# Altium schematic symbol library SCH - MCU - NUVOTON - NUVOTON M484SIDAE2U.SchLib: 1 symbol
Pins are listed as number, name and electrical type; pins without a type are passive.

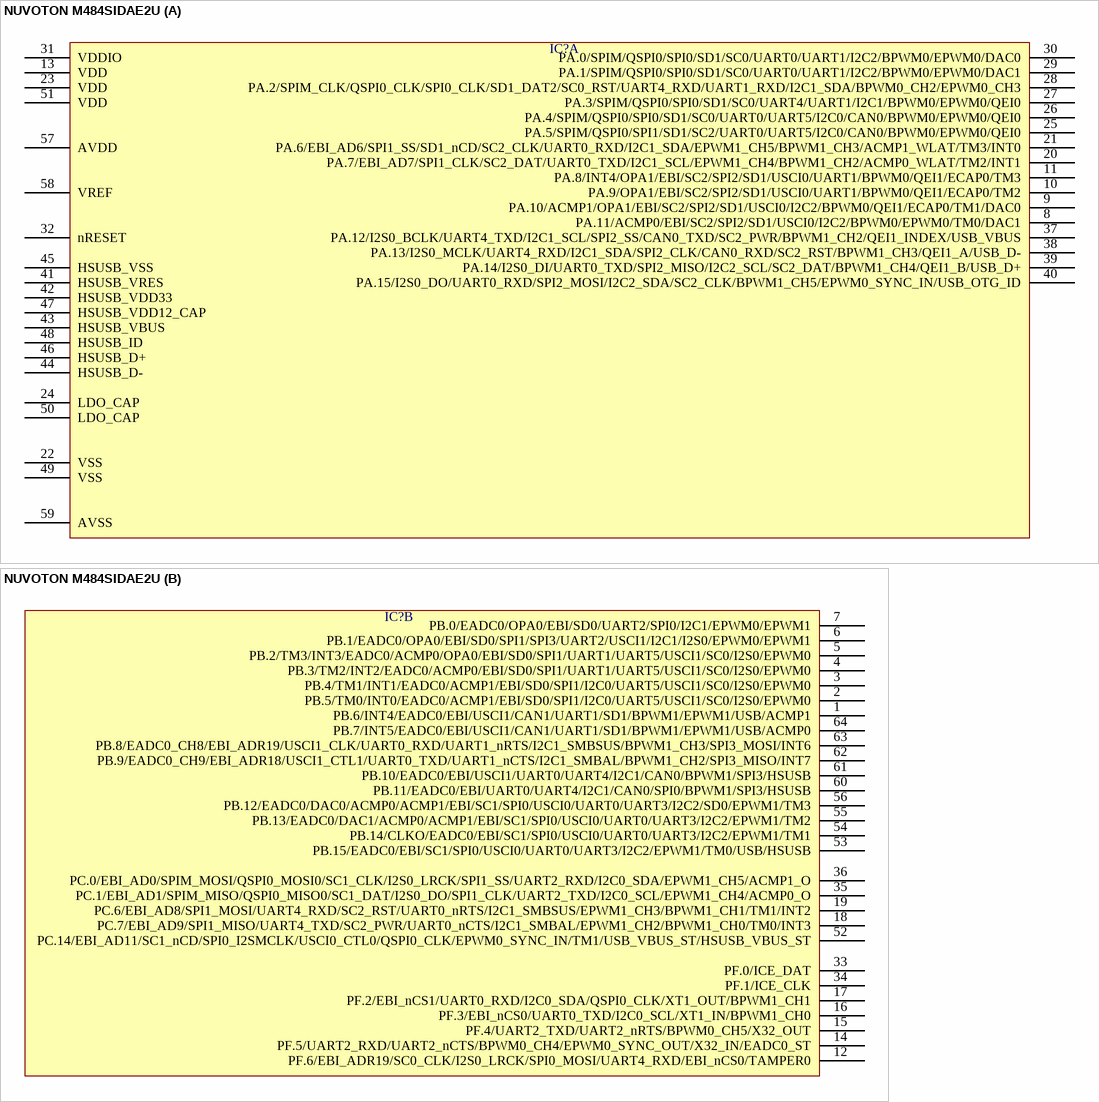
[diagram p0: symbol NUVOTON M484SIDAE2U]

## NUVOTON M484SIDAE2U
designator IC?  (value not drawn)
part A pins: 8 PA.11/ACMP0/EBI/SC2/SPI2/SD1/USCI0/I2C2/BPWM0/EPWM0/TM0/DAC1, 9 PA.10/ACMP1/OPA1/EBI/SC2/SPI2/SD1/USCI0/I2C2/BPWM0/QEI1/ECAP0/TM1/DAC0, 10 PA.9/OPA1/EBI/SC2/SPI2/SD1/USCI0/UART1/BPWM0/QEI1/ECAP0/TM2, 11 PA.8/INT4/OPA1/EBI/SC2/SPI2/SD1/USCI0/UART1/BPWM0/QEI1/ECAP0/TM3, 13 VDD, 20 PA.7/EBI_AD7/SPI1_CLK/SC2_DAT/UART0_TXD/I2C1_SCL/EPWM1_CH4/BPWM1_CH2/ACMP0_WLAT/TM2/INT1, 21 PA.6/EBI_AD6/SPI1_SS/SD1_nCD/SC2_CLK/UART0_RXD/I2C1_SDA/EPWM1_CH5/BPWM1_CH3/ACMP1_WLAT/TM3/INT0, 22 VSS, 23 VDD, 24 LDO_CAP, 25 PA.5/SPIM/QSPI0/SPI1/SD1/SC2/UART0/UART5/I2C0/CAN0/BPWM0/EPWM0/QEI0, 26 PA.4/SPIM/QSPI0/SPI0/SD1/SC0/UART0/UART5/I2C0/CAN0/BPWM0/EPWM0/QEI0, 27 PA.3/SPIM/QSPI0/SPI0/SD1/SC0/UART4/UART1/I2C1/BPWM0/EPWM0/QEI0, 28 PA.2/SPIM_CLK/QSPI0_CLK/SPI0_CLK/SD1_DAT2/SC0_RST/UART4_RXD/UART1_RXD/I2C1_SDA/BPWM0_CH2/EPWM0_CH3, 29 PA.1/SPIM/QSPI0/SPI0/SD1/SC0/UART0/UART1/I2C2/BPWM0/EPWM0/DAC1, 30 PA.0/SPIM/QSPI0/SPI0/SD1/SC0/UART0/UART1/I2C2/BPWM0/EPWM0/DAC0, 31 VDDIO, 32 nRESET, 37 PA.12/I2S0_BCLK/UART4_TXD/I2C1_SCL/SPI2_SS/CAN0_TXD/SC2_PWR/BPWM1_CH2/QEI1_INDEX/USB_VBUS, 38 PA.13/I2S0_MCLK/UART4_RXD/I2C1_SDA/SPI2_CLK/CAN0_RXD/SC2_RST/BPWM1_CH3/QEI1_A/USB_D-, 39 PA.14/I2S0_DI/UART0_TXD/SPI2_MISO/I2C2_SCL/SC2_DAT/BPWM1_CH4/QEI1_B/USB_D+, 40 PA.15/I2S0_DO/UART0_RXD/SPI2_MOSI/I2C2_SDA/SC2_CLK/BPWM1_CH5/EPWM0_SYNC_IN/USB_OTG_ID, 41 HSUSB_VRES, 42 HSUSB_VDD33, 43 HSUSB_VBUS, 44 HSUSB_D-, 45 HSUSB_VSS, 46 HSUSB_D+, 47 HSUSB_VDD12_CAP, 48 HSUSB_ID, 49 VSS, 50 LDO_CAP, 51 VDD, 57 AVDD, 58 VREF, 59 AVSS
part B pins: 1 PB.6/INT4/EADC0/EBI/USCI1/CAN1/UART1/SD1/BPWM1/EPWM1/USB/ACMP1, 2 PB.5/TM0/INT0/EADC0/ACMP1/EBI/SD0/SPI1/I2C0/UART5/USCI1/SC0/I2S0/EPWM0, 3 PB.4/TM1/INT1/EADC0/ACMP1/EBI/SD0/SPI1/I2C0/UART5/USCI1/SC0/I2S0/EPWM0, 4 PB.3/TM2/INT2/EADC0/ACMP0/EBI/SD0/SPI1/UART1/UART5/USCI1/SC0/I2S0/EPWM0, 5 PB.2/TM3/INT3/EADC0/ACMP0/OPA0/EBI/SD0/SPI1/UART1/UART5/USCI1/SC0/I2S0/EPWM0, 6 PB.1/EADC0/OPA0/EBI/SD0/SPI1/SPI3/UART2/USCI1/I2C1/I2S0/EPWM0/EPWM1, 7 PB.0/EADC0/OPA0/EBI/SD0/UART2/SPI0/I2C1/EPWM0/EPWM1, 12 PF.6/EBI_ADR19/SC0_CLK/I2S0_LRCK/SPI0_MOSI/UART4_RXD/EBI_nCS0/TAMPER0, 14 PF.5/UART2_RXD/UART2_nCTS/BPWM0_CH4/EPWM0_SYNC_OUT/X32_IN/EADC0_ST, 15 PF.4/UART2_TXD/UART2_nRTS/BPWM0_CH5/X32_OUT, 16 PF.3/EBI_nCS0/UART0_TXD/I2C0_SCL/XT1_IN/BPWM1_CH0, 17 PF.2/EBI_nCS1/UART0_RXD/I2C0_SDA/QSPI0_CLK/XT1_OUT/BPWM1_CH1, 18 PC.7/EBI_AD9/SPI1_MISO/UART4_TXD/SC2_PWR/UART0_nCTS/I2C1_SMBAL/EPWM1_CH2/BPWM1_CH0/TM0/INT3, 19 PC.6/EBI_AD8/SPI1_MOSI/UART4_RXD/SC2_RST/UART0_nRTS/I2C1_SMBSUS/EPWM1_CH3/BPWM1_CH1/TM1/INT2, 33 PF.0/ICE_DAT, 34 PF.1/ICE_CLK, 35 PC.1/EBI_AD1/SPIM_MISO/QSPI0_MISO0/SC1_DAT/I2S0_DO/SPI1_CLK/UART2_TXD/I2C0_SCL/EPWM1_CH4/ACMP0_O, 36 PC.0/EBI_AD0/SPIM_MOSI/QSPI0_MOSI0/SC1_CLK/I2S0_LRCK/SPI1_SS/UART2_RXD/I2C0_SDA/EPWM1_CH5/ACMP1_O, 52 PC.14/EBI_AD11/SC1_nCD/SPI0_I2SMCLK/USCI0_CTL0/QSPI0_CLK/EPWM0_SYNC_IN/TM1/USB_VBUS_ST/HSUSB_VBUS_ST, 53 PB.15/EADC0/EBI/SC1/SPI0/USCI0/UART0/UART3/I2C2/EPWM1/TM0/USB/HSUSB, 54 PB.14/CLKO/EADC0/EBI/SC1/SPI0/USCI0/UART0/UART3/I2C2/EPWM1/TM1, 55 PB.13/EADC0/DAC1/ACMP0/ACMP1/EBI/SC1/SPI0/USCI0/UART0/UART3/I2C2/EPWM1/TM2, 56 PB.12/EADC0/DAC0/ACMP0/ACMP1/EBI/SC1/SPI0/USCI0/UART0/UART3/I2C2/SD0/EPWM1/TM3, 60 PB.11/EADC0/EBI/UART0/UART4/I2C1/CAN0/SPI0/BPWM1/SPI3/HSUSB, 61 PB.10/EADC0/EBI/USCI1/UART0/UART4/I2C1/CAN0/BPWM1/SPI3/HSUSB, 62 PB.9/EADC0_CH9/EBI_ADR18/USCI1_CTL1/UART0_TXD/UART1_nCTS/I2C1_SMBAL/BPWM1_CH2/SPI3_MISO/INT7, 63 PB.8/EADC0_CH8/EBI_ADR19/USCI1_CLK/UART0_RXD/UART1_nRTS/I2C1_SMBSUS/BPWM1_CH3/SPI3_MOSI/INT6, 64 PB.7/INT5/EADC0/EBI/USCI1/CAN1/UART1/SD1/BPWM1/EPWM1/USB/ACMP0